# Altium footprint library Orient2.PcbLib: 47 footprints (part 2 of 3)
Each footprint in its own frame and in the unit in brackets; x right, y up, seen from the top. Pads: shape width x height; smd on the part's side, far side on the other; paste and mask are expansions set on the pad; w line width, h text height; cw(c..) or ccw(c..) is an arc to the next point about the centre after c.
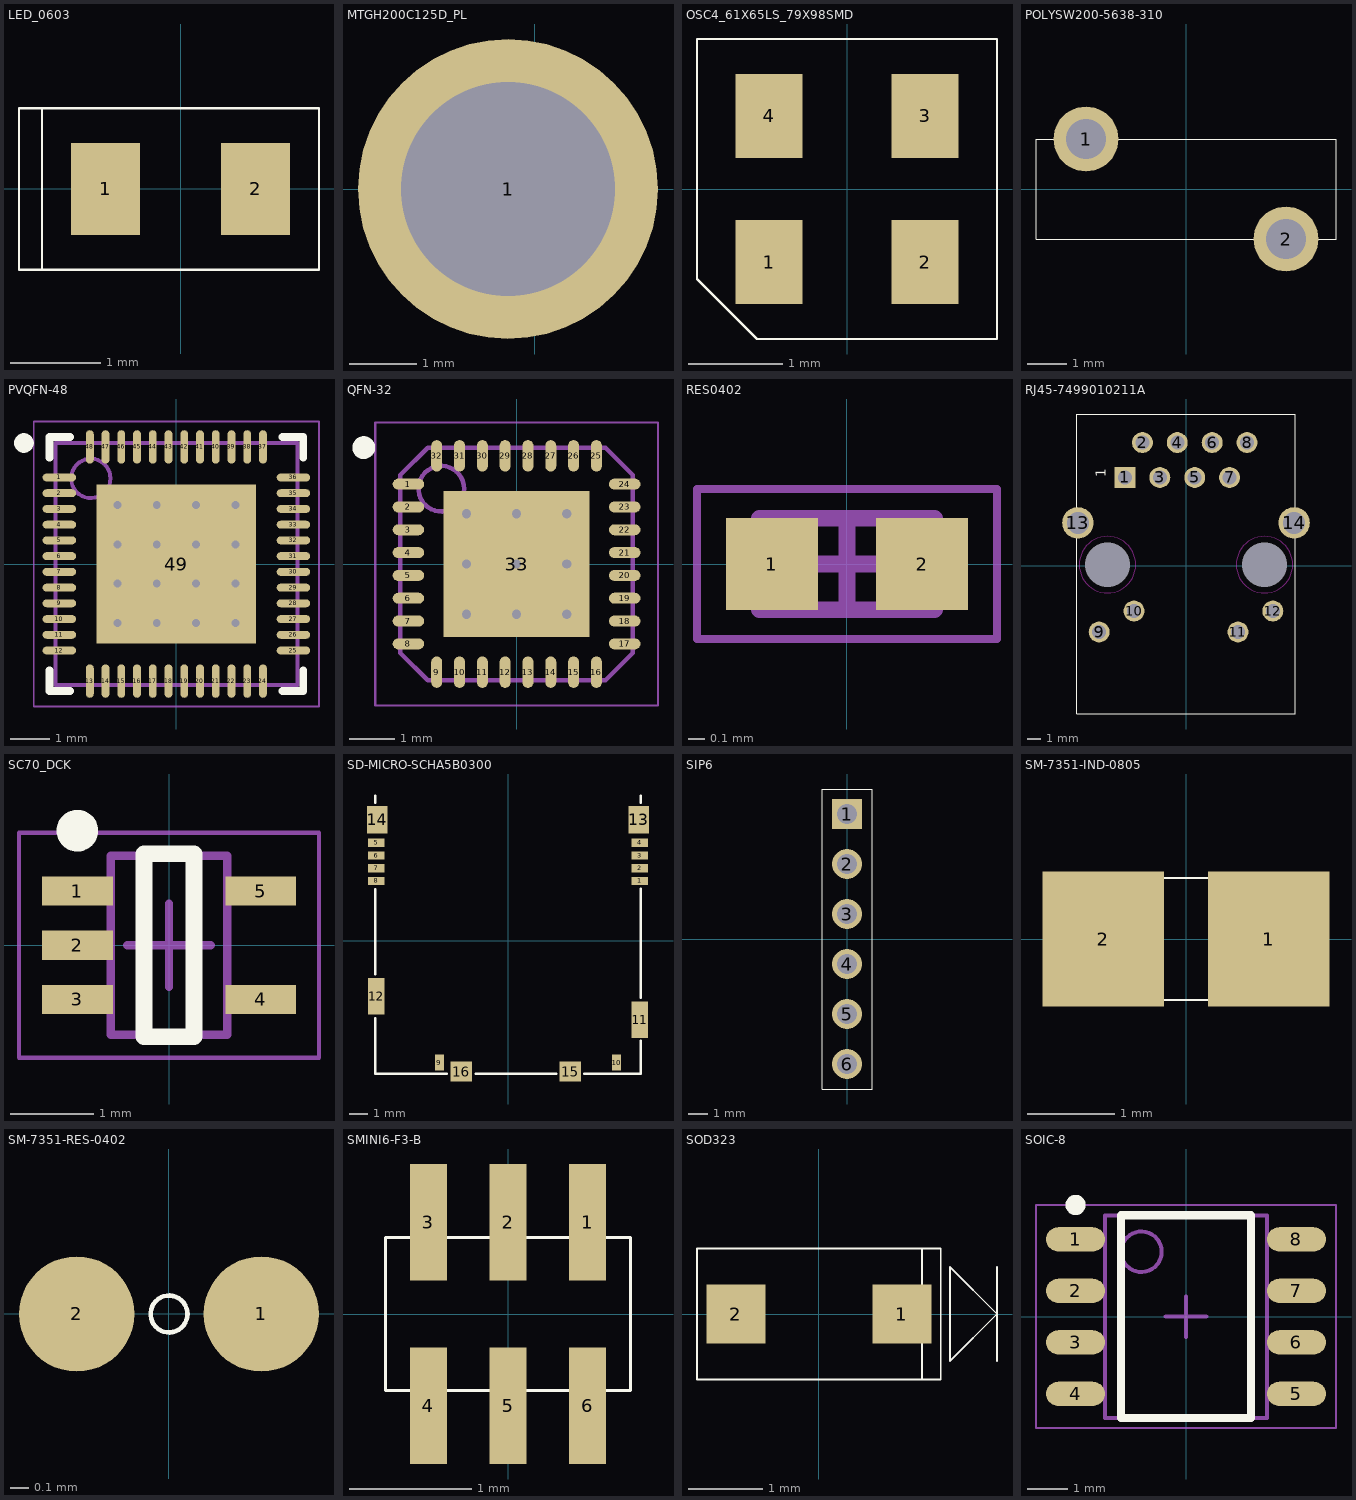
[diagram p1: the footprints below, top view; thin cyan lines are the x and y axes]

## LED_0603 [mil] "LED_0603"
pads (2):
  rect 30x40 smd mask+2: 1(-32.5,0) 2(32.5,0)
Top Overlay:
  lines w1: -60,-35 -60,35 ; -60,-35 -70,-35 -70,35 -60,35 ; -60,-35 -60,35 ; -60,-35 60,-35 60,35 -60,35

## MTGH200C125D_PL [mil] "MTGH200C125D_PL"
pads (1):
  round 175 hole 125 mask+2: 1(-15.5,0)

## OSC4_61X65LS_79X98SMD [mil] "OSC4_61X65LS_79X98SMD"
pads (4):
  rect 28x35 smd mask+2: 1(-32.5,-30.5) 2(32.5,-30.5) 3(32.5,30.5) 4(-32.5,30.5)
Top Overlay:
  lines w1: -62.5,-37.5 -37.5,-62.5 62.5,-62.5 62.5,62.5 -62.5,62.5 -62.5,-37.5

## POLYSW200-5638-310 [mil] "POLYSW200-5638-310"
pads (2):
  round 65 hole 40 mask+2: 1(-100,50) 2(100,-50)
Top Overlay:
  lines w1: -150,-50 150,-50 150,50 -150,50 -150,-50

## PVQFN-48 [mm] "QFN, 48-Leads, Body 6.00x6.00mm, Pitch 0.40mm, Thermal Pad 2.80x2.80mm, IPC Medium Density"
height 1
pads (49):
  oval 0.85x0.2 smd mask+0.05: 1(-2.975,2.2) 2(-2.975,1.8) 3(-2.975,1.4) 4(-2.975,1) 5(-2.975,0.6) 6(-2.975,0.2) 7(-2.975,-0.2) 8(-2.975,-0.6) 9(-2.975,-1) 10(-2.975,-1.4) 11(-2.975,-1.8) 12(-2.975,-2.2) 25(2.975,-2.2) 26(2.975,-1.8) 27(2.975,-1.4) 28(2.975,-1) 29(2.975,-0.6) 30(2.975,-0.2) 31(2.975,0.2) 32(2.975,0.6) 33(2.975,1) 34(2.975,1.4) 35(2.975,1.8) 36(2.975,2.2)
  oval 0.2x0.85 smd mask+0.05: 13(-2.2,-2.975) 14(-1.8,-2.975) 15(-1.4,-2.975) 16(-1,-2.975) 17(-0.6,-2.975) 18(-0.2,-2.975) 19(0.2,-2.975) 20(0.6,-2.975) 21(1,-2.975) 22(1.4,-2.975) 23(1.8,-2.975) 24(2.2,-2.975) 37(2.2,2.975) 38(1.8,2.975) 39(1.4,2.975) 40(1,2.975) 41(0.6,2.975) 42(0.2,2.975) 43(-0.2,2.975) 44(-0.6,2.975) 45(-1,2.975) 46(-1.4,2.975) 47(-1.8,2.975) 48(-2.2,2.975)
  rect 4.05x4.05 smd: 49(0,0)
via -0.5,0.5 diameter 0.5 hole 0.2
via 0.5,0.5 diameter 0.5 hole 0.2
via -0.5,-0.5 diameter 0.5 hole 0.2
via 0.5,-0.5 diameter 0.5 hole 0.2
via -1.5,0.5 diameter 0.5 hole 0.2
via -1.5,1.5 diameter 0.5 hole 0.2
via -0.5,1.5 diameter 0.5 hole 0.2
via 0.5,1.5 diameter 0.5 hole 0.2
via 1.5,1.5 diameter 0.5 hole 0.2
via 1.5,0.5 diameter 0.5 hole 0.2
via 1.5,-0.5 diameter 0.5 hole 0.2
via -1.5,-0.5 diameter 0.5 hole 0.2
via -1.5,-1.5 diameter 0.5 hole 0.2
via -0.5,-1.5 diameter 0.5 hole 0.2
via 0.5,-1.5 diameter 0.5 hole 0.2
via 1.5,-1.5 diameter 0.5 hole 0.2
Top Overlay:
  circle w0.25: c-3.875,3.075 r0.125
  lines w0.2: -3.225,-2.7 -3.225,-3.225 -2.7,-3.225 ; -3.225,2.7 -3.225,3.225 -2.7,3.225 ; 2.7,-3.225 3.225,-3.225 3.225,-2.7 ; 2.7,3.225 3.225,3.225 3.225,2.7
Mechanical 13:
  circle w0.1: c-2.175,2.175 r0.5
  lines w0.1: -3.075,-3.075 -3.075,3.075 3.075,3.075 3.075,-3.075 -3.075,-3.075
Mechanical 15:
  lines w0.05: -3.625,-3.625 -3.625,3.625 3.625,3.625 3.625,-3.625 -3.625,-3.625
  lines w0.1: -0.5,0 0.5,0 ; 0,-0.5 0,0.5
3D body "QFN40P600X600X100_HS-49N.step": height 1, standoff 0, extent -3.076,-3.076 3.076,3.076

## QFN-32 [mm] "QFN, 32-Leads, Body 5.00x5.00mm, Pitch 0.50mm, Thermal Pad 3.20x3.20mm, IPC Medium Density"
height 1
pads (33):
  oval 0.69x0.24 smd mask+0.05: 1(-2.37,1.75) 2(-2.37,1.25) 3(-2.37,0.75) 4(-2.37,0.25) 5(-2.37,-0.25) 6(-2.37,-0.75) 7(-2.37,-1.25) 8(-2.37,-1.75) 17(2.37,-1.75) 18(2.37,-1.25) 19(2.37,-0.75) 20(2.37,-0.25) 21(2.37,0.25) 22(2.37,0.75) 23(2.37,1.25) 24(2.37,1.75)
  oval 0.24x0.69 smd mask+0.05: 9(-1.75,-2.37) 10(-1.25,-2.37) 11(-0.75,-2.37) 12(-0.25,-2.37) 13(0.25,-2.37) 14(0.75,-2.37) 15(1.25,-2.37) 16(1.75,-2.37) 25(1.75,2.37) 26(1.25,2.37) 27(0.75,2.37) 28(0.25,2.37) 29(-0.25,2.37) 30(-0.75,2.37) 31(-1.25,2.37) 32(-1.75,2.37)
  rect 3.2x3.2 smd: 33(0,0)
via -1.1,1.1 diameter 0.5 hole 0.2
via 0,1.1 diameter 0.5 hole 0.2
via 1.1,1.1 diameter 0.5 hole 0.2
via -1.1,0 diameter 0.5 hole 0.2
via 0,0 diameter 0.5 hole 0.2
via 1.1,0 diameter 0.5 hole 0.2
via -1.1,-1.1 diameter 0.5 hole 0.2
via 0,-1.1 diameter 0.5 hole 0.2
via 1.1,-1.1 diameter 0.5 hole 0.2
Top Overlay:
  circle w0.25: c-3.35,2.55 r0.125
Mechanical 13:
  circle w0.1: c-1.65,1.65 r0.5
  lines w0.1: -2.55,-1.95 -1.95,-2.55 1.95,-2.55 2.55,-1.95 2.55,1.95 1.95,2.55 -1.95,2.55 -2.55,1.95 -2.55,-1.95
Mechanical 15:
  lines w0.05: -3.1,-3.1 -3.1,3.1 3.1,3.1 3.1,-3.1 -3.1,-3.1
  lines w0.1: -0.5,0 0.5,0 ; 0,-0.5 0,0.5
3D body "QFN50P500X500X100_HS-33N.step": height 1, standoff 0, extent -2.551,-2.551 2.551,2.551

## RES0402 [mm] "Chip Resistor, 2-Leads, Body 1.00x0.50mm, IPC Medium Density"
height 0.4
pads (2):
  rect 0.55x0.55 smd: 1(-0.45,0) 2(0.45,0)
Mechanical 13:
  lines w0.1: -0.525,-0.275 -0.525,0.275 0.525,0.275 0.525,-0.275 -0.525,-0.275
Mechanical 15:
  lines w0.05: -0.9,-0.45 -0.9,0.45 0.9,0.45 0.9,-0.45 -0.9,-0.45
  lines w0.1: -0.275,0 0.275,0 ; 0,-0.275 0,0.275
3D body "RESC1005X04N.step": height 0.4, standoff 0, extent -0.525,-0.275 0.525,0.275

## RJ45-7499010211A [mil] "RJ45-7499010211A"
pads (16):
  rect 60x60 hole 40 mask+2: 1(-175,252.5)
  round 60 hole 40 mask+2: 2(-125,352.5) 3(-75,252.5) 4(-25,352.5) 5(25,252.5) 6(75,352.5) 7(125,252.5) 8(175,352.5) 9(-249,-190.5) 10(-149,-130.5) 11(149,-190.5) 12(249,-130.5)
  round 90 hole 63 mask+2: 13(-310,122.5) 14(310,122.5)
  round 40 / inner round 150 / far side round 40 hole 128 mask+2: " "(-225,2.5) " "(225,2.5)
Top Overlay:
  lines w1: -313,-425.5 313,-425.5 313,434.5 -313,434.5 -313,-425.5
  text "1" at -230,252.5 h28
Multi-Layer keep-out:
  circle w1: c225,2.5 r81
  circle w1: c-225,2.5 r81

## SC70_DCK [mm] "SOT23, 5-Leads, Body 2.00x2.10mm, Pitch 0.65mm, IPC Medium Density"
height 1.1
pads (5):
  rect 0.85x0.35 smd: 1(-1.1,0.65) 2(-1.1,0) 3(-1.1,-0.65) 4(1.1,-0.65) 5(1.1,0.65)
Top Overlay:
  circle w0.25: c-1.1,1.375 r0.125
  lines w0.2: -0.3,-1.1 -0.3,1.1 0.3,1.1 0.3,-1.1 -0.3,-1.1
Mechanical 13:
  lines w0.1: -0.7,-1.075 0.7,-1.075 0.7,1.075 -0.7,1.075 -0.7,-1.075
Mechanical 15:
  lines w0.05: -1.8,-1.35 1.8,-1.35 1.8,1.35 -1.8,1.35 -1.8,-1.35
  lines w0.1: -0.5,0 0.5,0 ; 0,-0.5 0,0.5
3D body "SOT65P210X110-5N.step": height 1.1, standoff 0, extent -1.2,-1.075 1.2,1.075

## SD-MICRO-SCHA5B0300 [mil] "SD-MICRO-SCHA5B0300"
pads (16):
  rect 36x18 smd mask+2: 1(285.72,130) 2(285.72,157.56) 3(285.72,185.12) 4(285.72,212.68) 5(-285.72,212.68) 6(-285.72,185.12) 7(-285.72,157.56) 8(-285.72,130)
  rect 20x35 smd mask+2: 9(-148.62,-263.28) 10(235.24,-263.28)
  rect 35x79 smd mask+2: 11(285.43,-170.59) 12(-285.43,-119.41)
  rect 44x60 smd mask+2: 13(283.32,262.48) 14(-283.32,262.48)
  rect 47x43 smd mask+2: 15(134.84,-282.91) 16(-101.37,-282.91)
Top Overlay:
  lines w5: -287.5,-167 -287.5,-287.5 -132.5,-287.5 ; -287.5,-72.5 -287.5,112.05 ; -287.5,299.5 -287.5,315 ; -70,-287.5 104.5,-287.5 ; 165.5,-287.5 287.5,-287.5 287.5,-215.5 ; 287.5,-123 287.5,113 ; 287.5,299.5 287.5,315

## SIP6 [mil] "SIP6"
pads (6):
  rect 60x60 hole 40 mask+2: 1(0,250)
  round 60 hole 40 mask+2: 2(0,150) 3(0,50) 4(0,-50) 5(0,-150) 6(0,-250)
Top Overlay:
  lines w1: -50,-300 50,-300 50,300 -50,300 -50,-300

## SM-7351-IND-0805 [mil] "SM-7351-IND-0805"
pads (2):
  rect 55x61 smd mask+2: 1(37.4,0) 2(-37.4,0)
Top Overlay:
  lines w1: -43.31,-27.56 43.31,-27.56 43.31,27.56 -43.31,27.56 -43.31,-27.56

## SM-7351-RES-0402 [mil] "SM-7351-RES-0402"
pads (2):
  round 25 smd mask+2: 1(20,0) 2(-20,0)
Top Overlay:
  circle w1: c0,0 r4

## SMINI6-F3-B [mil] "SMINI6-F3-B"
pads (6):
  rect 12x37.4 smd mask+2: 1(25.59,29.53) 2(0,29.53) 3(-25.59,29.53) 4(-25.59,-29.53) 5(0,-29.53) 6(25.59,-29.53)
Top Overlay:
  lines w1: -39.37,-24.61 39.37,-24.61 39.37,24.61 -39.37,24.61 -39.37,-24.61

## SOD323 [mil] "SOD323"
pads (2):
  rect 31.5x31.5 smd mask+2: 1(44.29,0) 2(-44.29,0)
Top Overlay:
  lines w1: 55,-35 55,35 ; 95,-25 95,25 ; -65,-35 65,-35 65,35 -65,35 -65,-35 ; 70,-25 70,25 95,0 70,-25

## SOIC-8 [mm] "SOIC, 8-Leads, Body 4.90x3.90mm, Pitch 1.27mm, IPC Medium Density"
height 1.75
pads (8):
  oval 1.45x0.6 smd: 1(-2.725,1.905) 2(-2.725,0.635) 3(-2.725,-0.635) 4(-2.725,-1.905) 5(2.725,-1.905) 6(2.725,-0.635) 7(2.725,0.635) 8(2.725,1.905)
Top Overlay:
  circle w0.25: c-2.725,2.755 r0.125
  lines w0.2: -1.6,-2.5 -1.6,2.5 1.6,2.5 1.6,-2.5 -1.6,-2.5
Mechanical 13:
  circle w0.1: c-1.1,1.6 r0.5
  lines w0.1: -2,-2.5 -2,2.5 2,2.5 2,-2.5 -2,-2.5
Mechanical 15:
  lines w0.05: -3.7,-2.75 -3.7,2.75 3.7,2.75 3.7,-2.75 -3.7,-2.75
  lines w0.1: -0.5,0 0.5,0 ; 0,-0.5 0,0.5
3D body "SOIC127P600X175-8N.step": height 1.75, standoff 0, extent -3,-2.5 3,2.5